# EAGLE library part 62001021121 (library Wurth_Elektronik2)
WR-PHD 2.00mm Dual Pin Header, 10 Pins=>Code : WR-PHD_Dual_Pin_Header_62001021121 <http://katalog.we-online.de/media/images/eican/WR-PHD_Dual_Pin_Header_6200xx21121.jpg> Details see: http://katalog.we-online.de/en/em/620_0xx_211_21 Created 2014-06-03, Karrer Zheng 2014 (C) Würth Elektronik
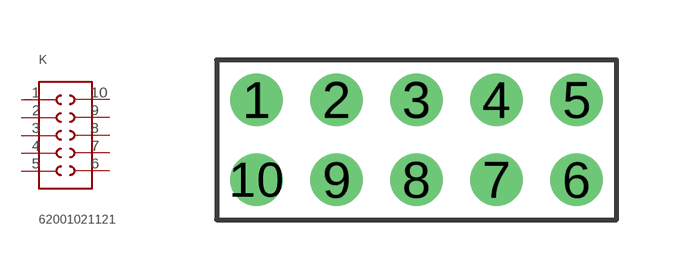
[diagram p235: symbol with the pads of 62001021121; footprint 62001021121]

Designator prefix K

## 62001021121  [62001021121]
1  1  pas
2  2  pas
3  3  pas
4  4  pas
5  5  pas
6  6  pas
7  7  pas
8  8  pas
9  9  pas
10  10  pas

## Footprint 62001021121 (pad centres in mm)
WR-PHD 2.00mm Dual Pin Header, 10 Pins
drill 0.8: 1 -4,1; 2 -2,1; 3 0,1; 4 2,1; 5 4,1; 6 4,-1; 7 2,-1; 8 0,-1; 9 -2,-1; 10 -4,-1